# EAGLE library part MAX8601 (library DD_adafruit)
Maxim MAX8601 dual USB/DC lipoly battery charger http://www.ladyada.net/library/eagle
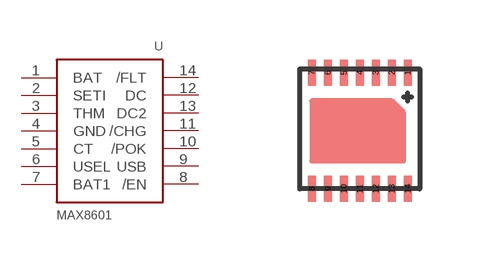
[diagram p46: symbol with the pads of TDFN14; footprint TDFN14]

Designator prefix -

## MAX8601  [TDFN14]
1  BAT  in
2  SETI  pas
3  THM  in
4  GND  pwr
5  CT  pas
6  USEL  in
7  BAT1  in
8  /EN  in
9  USB  in
10  /POK  out
11  /CHG  out
12  DC  in
13  DC2  in
14  /FLT  out

## Footprint TDFN14 (pad centres in mm)
smd 0.2 x 0.64: 1 1.2,1.4; 2 0.8,1.4; 3 0.4,1.4; 4 0,1.4; 5 -0.4,1.4; 6 -0.8,1.4; 7 -1.2,1.4; 8 -1.2,-1.5; 9 -0.8,-1.5; 10 -0.4,-1.5; 11 0,-1.5; 12 0.4,-1.5; 13 0.8,-1.5; 14 1.2,-1.5